# Altium schematic symbol library IC-CC2630RHB.SchLib: 1 symbol
Pins are listed as number, name and electrical type; pins without a type are passive.

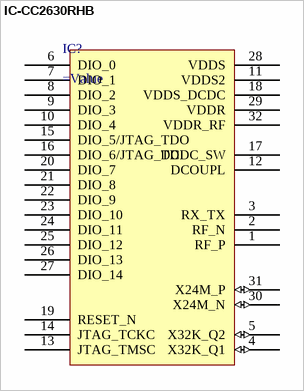
[diagram p0: symbol IC-CC2630RHB]

## IC-CC2630RHB
designator IC?
=Description
pins: 1 RF_P, 2 RF_N, 3 RX_TX, 4 X32K_Q1 (io), 5 X32K_Q2 (io), 6 DIO_0, 7 DIO_1, 8 DIO_2, 9 DIO_3, 10 DIO_4, 11 VDDS2, 12 DCOUPL, 13 JTAG_TMSC, 14 JTAG_TCKC, 15 DIO_5/JTAG_TDO, 16 DIO_6/JTAG_TDI, 17 DCDC_SW, 18 VDDS_DCDC, 19 RESET_N, 20 DIO_7, 21 DIO_8, 22 DIO_9, 23 DIO_10, 24 DIO_11, 25 DIO_12, 26 DIO_13, 27 DIO_14, 28 VDDS, 29 VDDR, 30 X24M_N (io), 31 X24M_P (io), 32 VDDR_RF